# Altium schematic symbol library CONN_SD_CARD_SMD.SchLib: 1 symbol
Pins are listed as number, name and electrical type; pins without a type are passive.

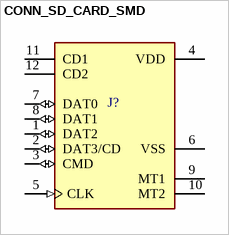
[diagram p0: symbol CONN_SD_CARD_SMD]

## CONN_SD_CARD_SMD
designator J?  (value not drawn)
8 Position Card Connector Secure Digital - microSDâ„¢ Surface Mount, Right Angle Gold; MP: 2908-05WB-MG; MF: 3M; SnapEDA_Link: https://www.snapeda.com/parts/2908-05WB-MG/3M%20%28TC%29/view-part/292159/?ref=snap; Value: *; Package: None; Digi-Key_Part_Number: 3M5607CT-ND; Digi-Key_Purchase_URL: https://www.digikey.in/product-detail/en/3m/2908-05WB-MG/3M5607CT-ND/1242498?utm_source=snapeda&utm_medium=aggregator&utm_campaign=symbol; Supplier 1: Digi-Key; Supplier Part Number 1: 3M5607CT-ND
footprint CONN_SD_CARD_SMD
pins: 1 DAT2 (io), 2 DAT3/CD (io), 3 CMD (io), 4 VDD (power), 5 CLK (in), 6 VSS (power), 7 DAT0 (io), 8 DAT1 (io), 9 MT1, 10 MT2, 11 CD1 (power), 12 CD2 (power)